# EAGLE library part LED_5050 (library pixel_masterlib)
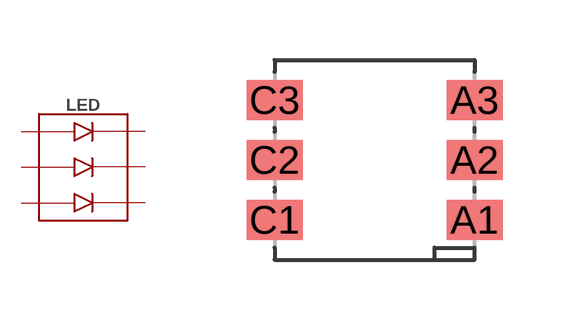
[diagram p14: symbol with the pads of LED_5050; footprint LED_5050]

Designator prefix LED

## LED_5050  [LED_5050]
A1  A1
A2  A2
A3  A3
C1  C1
C2  C2
C3  C3

## Footprint LED_5050 (pad centres in mm)
smd 1.4 x 1: A1 2.5,-1.5; A2 2.5,0; A3 2.5,1.5; C1 -2.5,-1.5; C2 -2.5,0; C3 -2.5,1.5